# Altium integrated library RC0603FR-07100KL.IntLib: 1 symbol
Pins are listed as number, name and electrical type; pins without a type are passive.

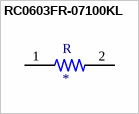
[diagram p0: symbol RC0603FR-07100KL]

## RC0603FR-07100KL
designator R
100 kOhms Â±1% 0.1W, 1/10W Chip Resistor 0603 _1608 Metric_ Moisture Resistant Thick Film; MP: RC0603FR-07100KL; MF: Yageo; Package: 0603 Yageo; Digi-Key_Purchase_URL: https://www.digikey.com/product-detail/en/yageo/RC0603FR-07100KL/311-100KHRCT-ND/729836?utm_source=snapeda&utm_medium=aggregator&utm_campaign=symbol; Value: *; Digi-Key_Part_Number: 311-100KHRCT-ND; SnapEDA_Link: https://www.snapeda.com/parts/RC0603FR-07100KL/Yageo/view-part/105951/?ref=snap
footprint RESC1607X60N
pins: 1, 2